# Altium footprint library Battery_Charger_BQ24650.PcbLib: 25 footprints (part 1 of 2)
Each footprint in its own frame and in the unit in brackets; x right, y up, seen from the top. Pads: shape width x height; smd on the part's side, far side on the other; paste and mask are expansions set on the pad; w line width, h text height; cw(c..) or ccw(c..) is an arc to the next point about the centre after c.
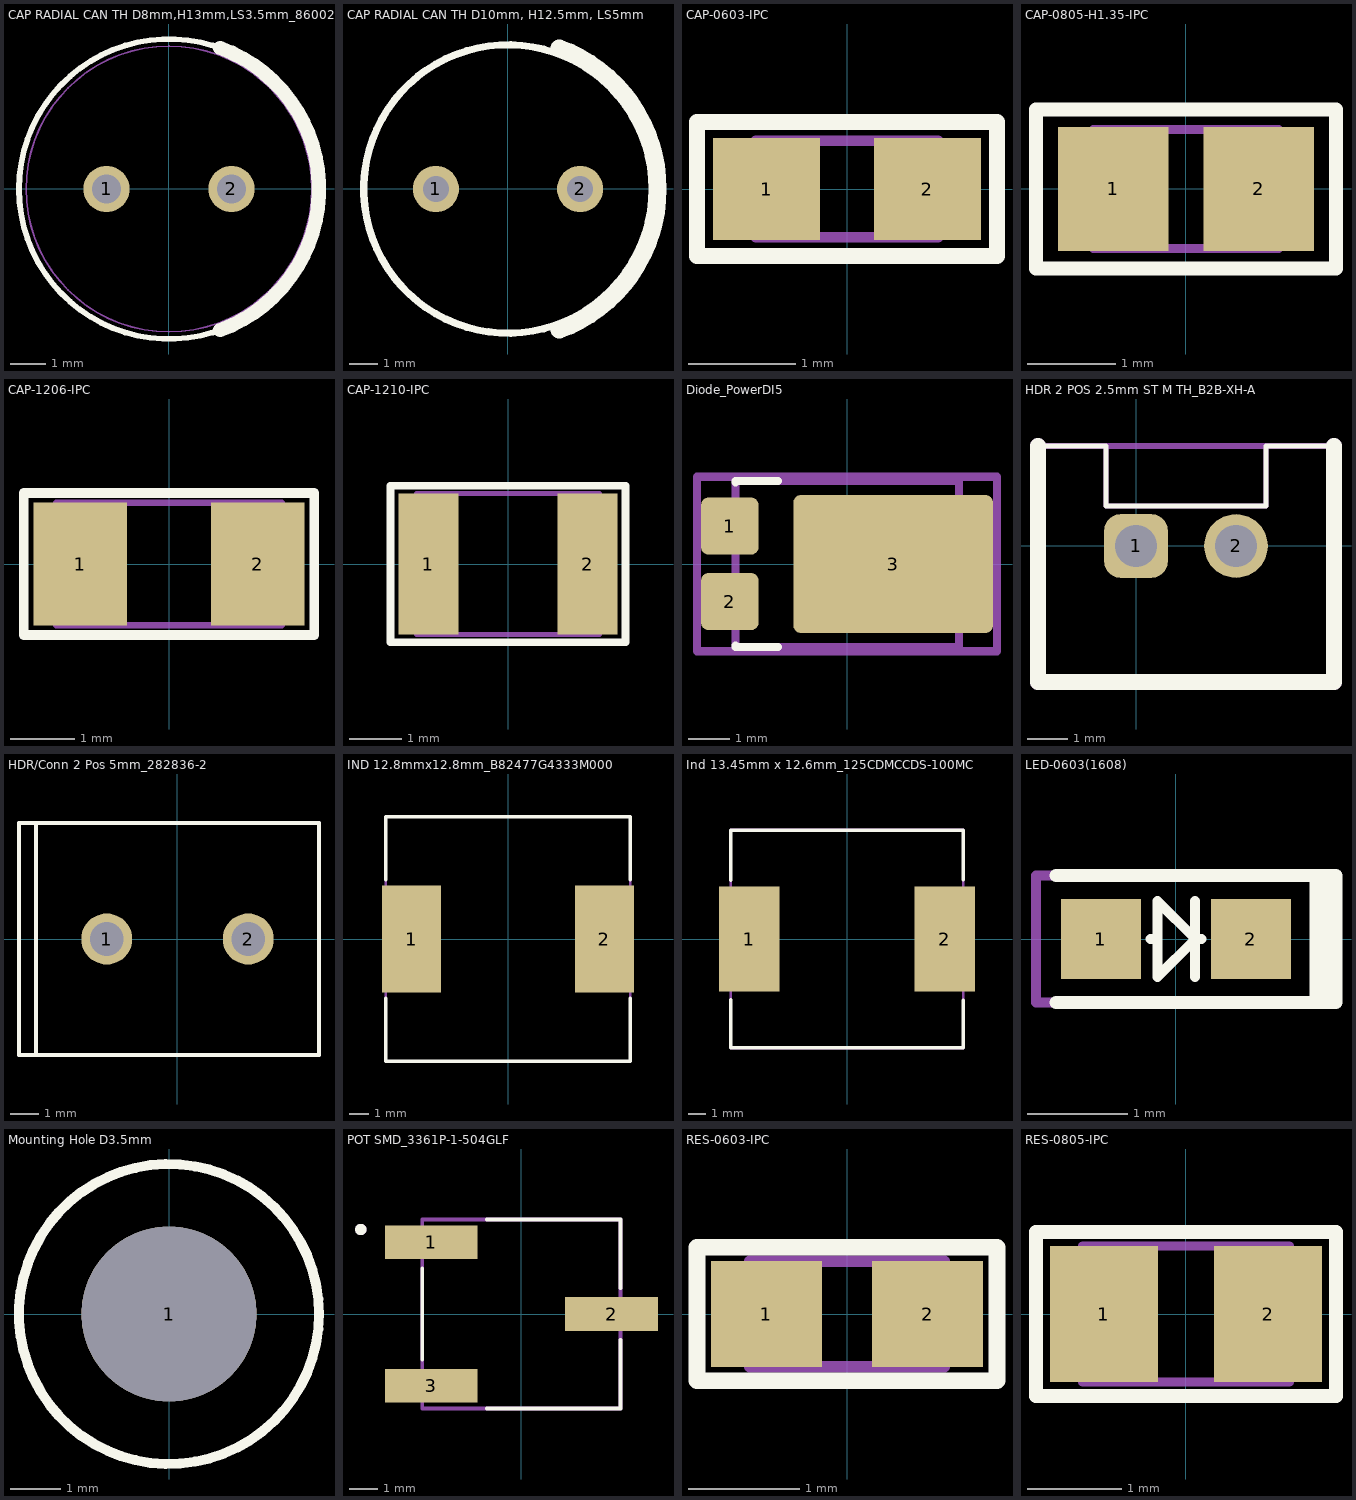
[diagram p0: the footprints below, top view; thin cyan lines are the x and y axes]

## CAP RADIAL CAN TH D8mm,H13mm,LS3.5mm_860020474014 [mm] "Aluminum Electrolytic Capacitors, 8x13mm"
height 11
pads (2):
  round 1.3 hole 0.8: 1(-1.75,0) 2(1.75,0)
Top Overlay:
  circle w0.16: c0,0 r4.2
  lines w0.4: 1.436,-3.947 ccw(c0,0) 1.436,3.946
Top Assembly:
  circle w0.05: c0,0 r4
3D body "8x11.5x3.5x0.5.stp": height 11.81, standoff -19.91, extent -3.994,-3.995 3.99,4

## CAP RADIAL CAN TH D10mm, H12.5mm, LS5mm [mm]
pads (2):
  round 1.6 hole 0.9: 1(-2.5,0) 2(2.5,0)
Top Overlay:
  circle w0.254: c0,0 r5
  lines w0.6: 1.779,-4.887 ccw(c0,0) 1.779,4.886
Top 3D Body:
  circle w0.178: c0,0 r5
Top Assembly:
  circle w0.1: c0,0 r5
  text "'.Designator'" at 0.178,-0.737 h0.89
3D body "U1-R_NCH.step": height 12.31, standoff -4.32, extent -5.002,-5.001 5.031,5.001

## CAP-0603-IPC [mm] "Chip Capacitor, 2-Leads, Body 1.60x0.80mm, IPC Medium Density"
height 0.9
pads (2):
  rect 1x0.95 smd: 1(-0.75,0) 2(0.75,0)
Top Overlay:
  lines w0.15: -1.4,-0.625 1.4,-0.625 1.4,0.625 -1.4,0.625 -1.4,-0.625
Top 3D Body:
  lines w0.1: -0.85,-0.45 0.85,-0.45 0.85,0.45 -0.85,0.45 -0.85,-0.45
Top Assembly:
  lines w0.1: -0.85,-0.45 0.85,-0.45 0.85,0.45 -0.85,0.45 -0.85,-0.45
  text "'.Designator'" at -0.75,0.086 h1.52
3D body "CAP-0603-IPC.step": height 0.9, standoff 0, extent -0.85,-0.45 0.85,0.45

## CAP-0805-H1.35-IPC [mm] "Chip Capacitor, 2-Leads, Body 2.00x1.25mm, IPC Medium Density"
height 1.35
pads (2):
  rect 1.25x1.4 smd: 1(-0.825,0) 2(0.825,0)
Top Overlay:
  lines w0.16: -1.7,-0.9 -1.7,0.9 1.7,0.9 1.7,-0.9 -1.7,-0.9
Top 3D Body:
  lines w0.1: -1.05,-0.675 -1.05,0.675 1.05,0.675 1.05,-0.675 -1.05,-0.675
Top Assembly:
  text ".Designator" at -1.4,-0.502 h1.05
3D body "CAP-0805-H1.35-IPC.step": height 1.35, standoff 0, extent -1.05,-0.675 1.05,0.675

## CAP-1206-IPC [mm] "Chip Capacitor, 2-Leads, Body 3.20x1.60mm, IPC Medium Density"
height 1.9
pads (2):
  rect 1.45x1.9 smd: 1(-1.375,0) 2(1.375,0)
Top Overlay:
  lines w0.15: -2.25,-1.1 2.25,-1.1 2.25,1.1 -2.25,1.1 -2.25,-1.1
Top 3D Body:
  lines w0.1: -1.75,-0.95 1.75,-0.95 1.75,0.95 -1.75,0.95 -1.75,-0.95
Top Assembly:
  lines w0.1: -1.75,-0.95 1.75,-0.95 1.75,0.95 -1.75,0.95 -1.75,-0.95
  text "'.Designator'" at -1.986,-0.915 h1.05
3D body "CAP-1206-IPC.step": height 1.9, standoff 0, extent -1.75,-0.95 1.75,0.95

## CAP-1210-IPC [mm] "Chip Capacitor, 2-Leads, Body 3.20x2.50mm, IPC Medium Density"
height 2.7
pads (2):
  rect 1.15x2.7 smd: 1(-1.525,0) 2(1.525,0)
Top Overlay:
  lines w0.15: -2.25,-1.5 2.25,-1.5 2.25,1.5 -2.25,1.5 -2.25,-1.5
Top 3D Body:
  lines w0.1: -1.75,-1.35 1.75,-1.35 1.75,1.35 -1.75,1.35 -1.75,-1.35
Top Assembly:
  lines w0.1: -1.75,-1.35 1.75,-1.35 1.75,1.35 -1.75,1.35 -1.75,-1.35
  text "'.Designator'" at -1,-0.439 h1.52
3D body "CAP-1210-IPC.step": height 2.7, standoff 0, extent -1.75,-1.35 1.75,1.35

## Diode_PowerDI5 [mm] "PDS1040-13 / SDT10A45P5-7"
pads (3):
  rrect25% 1.4x1.39 smd: 1(-2.862,0.923) 2(-2.862,-0.917)
  rrect10% 4.86x3.36 smd: 3(1.12,0)
Top Overlay:
  lines w0.2: -2.725,-1.987 -2.725,-2.025 -1.685,-2.025 ; -2.725,1.993 -2.725,2.025 -1.685,2.025
Top 3D Body:
  lines w0.2: -2.725,-2.025 2.725,-2.025 2.725,2.025 -2.725,2.025 -2.725,-2.025
Top Assembly:
  lines w0.2: -3.662,-2.125 3.65,-2.125 ; -3.662,-2.125 -3.662,2.125 ; -3.662,-2.125 -3.662,2.125 ; -3.662,-2.125 3.65,-2.125 ; -3.662,2.125 3.65,2.125 ; -3.662,2.125 3.65,2.125 ; 3.65,-2.125 3.65,2.125 ; 3.65,-2.125 3.65,2.125
  text ".Designator" at -0.006,-0.001 h1
3D body "Diode_Diodes_Inc_PDS1040-13_eec.STEP": height 0.25, standoff 0, extent -3.662,-2.125 3.65,2.125

## HDR 2 POS 2.5mm ST M TH_B2B-XH-A [mm]
pads (2):
  rrect50% 1.59x1.59 hole 1.06: 1(0,0)
  round 1.59 hole 1.06: 2(2.5,0)
Top Overlay:
  lines w0.127: -2.45,2.5 -0.75,2.5 -0.75,1 0.75,1 1.75,1 3.25,1 3.25,2.5 4.95,2.5
  lines w0.4: -2.45,2.5 -2.45,-3.4 4.95,-3.4 4.95,2.5
Top 3D Body:
  lines w0.152: -2.5,-3.4 -2.5,2.5 5,2.5 5,-3.4 -2.5,-3.4
Top Assembly:
  lines w0.127: -2.45,2.5 -0.75,2.5 -0.75,1 0.75,1 1.75,1 3.25,1 3.25,2.5 4.95,2.5
  lines w0.4: -2.45,2.5 -2.45,-3.4 4.95,-3.4 4.95,2.5
  text "'.Designator'" at -1.6,-2.2 h0.76
3D body "XHP-2.STP": height 9.43, standoff 1.57, extent -2.3,-3.297 4.8,2.402
3D body "Conn_JST_B2B-XH-A_LF_SN_eec.STEP": height 0.25, standoff 0, extent -2.55,-3.5 5.05,2.45

## HDR/Conn 2 Pos 5mm_282836-2 [mm] "282836-2"
height 10
pads (2):
  round 1.8 hole 1.2: 1(-2.5,0) 2(2.5,0)
Top Overlay:
  lines w0.127: -5,-4.1 5,-4.1 5,4.1 -5,4.1 ; -5,-4.1 -5,4.1 ; -5,-4.1 -5.6,-4.1 -5.6,4.1 -5,4.1
Mechanical 13:
  lines w0.127: -5,-4.1 5,-4.1 5,4.1 -5,4.1 ; -5,-4.1 -5,4.1 ; -5,-4.1 -5.6,-4.1 -5.6,4.1 -5,4.1
3D body "step_temp.STEP": height 10, standoff -3.5, extent -5.6,-4.1 5,4.1

## IND 12.8mmx12.8mm_B82477G4333M000 [mm]
height 8
pads (2):
  rect 3.1x5.6 smd: 1(-5.05,0) 2(5.05,0)
Top Overlay:
  lines w0.2: -6.4,-3.12 -6.4,-6.4 6.4,-6.4 6.4,-3.12 ; -6.4,3.12 -6.4,6.4 6.4,6.4 6.4,3.12
Top 3D Body:
  lines w0.127: -6.4,-6.4 -6.4,6.4 6.4,6.4 6.4,-6.4 -6.4,-6.4
3D body "B82477G4333M000.step": height 6, standoff 0, extent -6.15,-6.15 6.15,6.15

## Ind 13.45mm x 12.6mm_125CDMCCDS-100MC [mm] "125CDMCCDS-100MC"
pads (2):
  rect 3.5x6.05 smd: 1(-5.65,0) 2(5.65,0)
Top Overlay:
  lines w0.2: -6.725,-3.525 -6.725,-6.3 6.725,-6.3 6.725,-3.55 ; -6.725,3.4 -6.725,6.3 6.725,6.3 6.725,3.425
Top 3D Body:
  lines w0.16: -6.725,-6.3 -6.725,6.3 6.725,6.3 6.725,-6.3 -6.725,-6.3
3D body "125CDMCCDS-100MC.stp": height 5, standoff 0, extent -6.725,-6.3 6.725,6.3

## LED-0603(1608) [mm]
pads (2):
  rect 0.8x0.8 smd: 1(-0.75,0) 2(0.75,0)
Top Overlay:
  lines w0.1: -0.254,0 -0.187,0 ; 0.19,-0.381 0.19,0.381 ; 0.229,0 0.254,0 ; -0.187,-0.381 -0.187,0.381 0.194,0 -0.187,-0.381
  lines w0.127: -1.2,-0.635 1.4,-0.635 ; -1.2,0.635 1.4,0.635 ; 1.5,-0.635 1.5,0.635 ; 1.4,-0.635 1.6,-0.635 1.6,0.635 1.4,0.635 ; 1.4,-0.635 1.4,0.635
Top Assembly:
  lines w0.1: -1.4,-0.635 -1.4,0.635 1.4,0.635 1.4,-0.635 -1.4,-0.635
  text "'.Designator'" at -0.35,-0.281 h0.64
3D body "LTST-C190KRKT--3DModel-STEP-56544.STEP": height 0.8, standoff 0, extent -0.813,-0.4 0.787,0.4

## Mounting Hole D3.5mm [mm]
pads (1):
  round 3.5 hole 3.5 unplated: 1(0,0)
Top Overlay:
  circle w0.2: c0,0 r3

## POT SMD_3361P-1-504GLF [mm] "3361P-1-504GLF"
height 5.84
pads (3):
  rect 3.3x1.19 smd: 1(-3.2,2.54) 2(3.2,0) 3(-3.2,-2.54)
Top Overlay:
  circle w0.2: c-5.7,3 r0.1
  lines w0.127: -3.52,-1.625 -3.52,1.625 ; -1.23,-3.355 3.52,-3.355 3.52,-0.915 ; -1.23,3.355 3.52,3.355 3.52,0.915
Top 3D Body:
  lines w0.127: -3.52,-3.355 3.52,-3.355 3.52,3.355 -3.52,3.355 -3.52,-3.355
Mechanical 13:
  circle w0.2: c-5.7,3 r0.1
3D body "step_temp.STEP": height 5.84, standoff 0, extent -4.265,-3.355 4.265,3.355

## RES-0603-IPC [mm] "Chip Resistor, 2-Leads, Body 1.60x0.80mm, IPC Medium Density"
height 0.55
pads (2):
  rect 1x0.95 smd: 1(-0.725,0) 2(0.725,0)
Top Overlay:
  lines w0.15: -1.35,-0.6 -1.35,0.6 1.35,0.6 1.35,-0.6 -1.35,-0.6
Top 3D Body:
  lines w0.1: -0.875,-0.475 -0.875,0.475 0.875,0.475 0.875,-0.475 -0.875,-0.475
Top Assembly:
  lines w0.1: -0.875,-0.475 -0.875,0.475 0.875,0.475 0.875,-0.475 -0.875,-0.475
  text "'.Designator'" at -1.075,-0.489 h1.52
3D body "RES-0603-IPC.step": height 0.55, standoff 0, extent -0.875,-0.475 0.875,0.475

## RES-0805-IPC [mm]
height 0.6
pads (2):
  rect 1.15x1.45 smd: 1(-0.875,0) 2(0.875,0)
Top Overlay:
  lines w0.15: -1.6,-0.875 -1.6,0.875 1.6,0.875 1.6,-0.875 -1.6,-0.875
Top 3D Body:
  lines w0.1: -1.1,-0.725 -1.1,0.725 1.1,0.725 1.1,-0.725 -1.1,-0.725
Top Assembly:
  lines w0.1: -1.1,-0.725 -1.1,0.725 1.1,0.725 1.1,-0.725 -1.1,-0.725
  text "'.Designator'" at -1.05,-0.527 h1.05
3D body "RES-0805-IPC.step": height 0.6, standoff 0, extent -1.1,-0.725 1.1,0.725